# EAGLE library part BMC150 (library circuit_tree)
IC
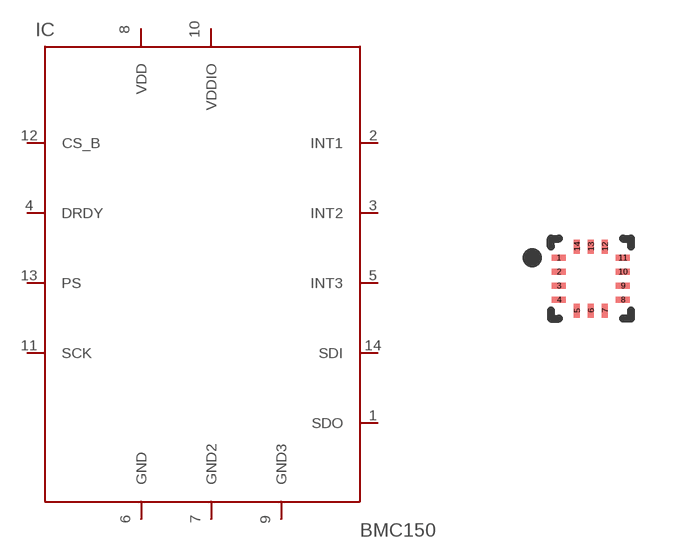
[diagram p2: symbol with the pads of LGA14R35P5X6_200X200X100; footprint LGA14R35P5X6_200X200X100]

Designator prefix IC

## BMC150  [LGA14R35P5X6_200X200X100]
1  SDO  pas
2  INT1  pas
3  INT2  pas
4  DRDY  pas
5  INT3  pas
6  GND  pas
7  GND2  pas
8  VDD  pas
9  GND3  pas
10  VDDIO  pas
11  SCK  pas
12  CS_B  pas
13  PS  pas
14  SDI  pas

## Footprint LGA14R35P5X6_200X200X100 (pad centres in mm)
smd 0.35 x 0.15: 1 -0.8,0.525; 2 -0.8,0.175; 3 -0.8,-0.175; 4 -0.8,-0.525; 8 0.8,-0.525; 9 0.8,-0.175; 10 0.8,0.175; 11 0.8,0.525
smd 0.15 x 0.35: 5 -0.35,-0.8; 6 0,-0.8; 7 0.35,-0.8; 12 0.35,0.8; 13 0,0.8; 14 -0.35,0.8